# EAGLE library part PCA9600 (library PIC18F45J10_Board)
I2C ACTIVE TERMINATOR 8-TSSOP
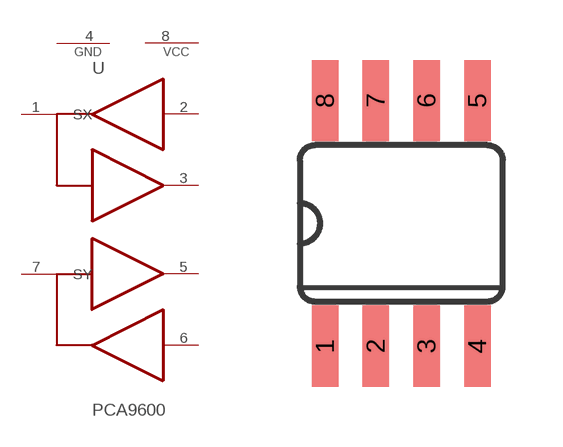
[diagram p4: symbol with the pads of PCA9600; footprint PCA9600]

Designator prefix -

## PCA9600D  [PCA9600]
1  SX
2  RX  in
3  TX  out
4  GND  pwr
5  TY  out
6  RY  in
7  SY
8  VCC  pwr

## Footprint PCA9600 (pad centres in mm)
smd 0.66 x 2.032: 1 -1.905,-3.073; 2 -0.635,-3.073; 3 0.635,-3.073; 4 1.905,-3.073; 5 1.905,3.073; 6 0.635,3.073; 7 -0.635,3.073; 8 -1.905,3.073